# Altium schematic symbol library 1N4149TR.SchLib: 1 symbol
Pins are listed as number, name and electrical type; pins without a type are passive.

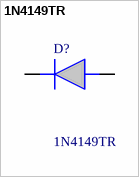
[diagram p0: symbol 1N4149TR]

## 1N4149TR
designator D?
ON SEMICONDUCTOR - 1N4149TR - DIODE, SMALL SIGNAL, 100V, DO-204AH; Manufacturer_Name: onsemi; Mouser Part Number: 512-1N4149TR; Mouser Price/Stock: https://www.mouser.co.uk/ProductDetail/ON-Semiconductor-Fairchild/1N4149TR/?qs=VZOZQ19d7%2FIpYVTk5v1ckw%3D%3D; Manufacturer_Part_Number: 1N4149TR; Datasheet Link: http://www.onsemi.com/pub/Collateral/1N4149-D.pdf
footprint DIOAD1068W53L380D172
pins: 1 K, 2 A